# Altium footprint library PcbLib_connector_pinheader.PcbLib: 1 footprints
Each footprint in its own frame and in the unit in brackets; x right, y up, seen from the top. Pads: shape width x height; smd on the part's side, far side on the other; paste and mask are expansions set on the pad; w line width, h text height; cw(c..) or ccw(c..) is an arc to the next point about the centre after c.
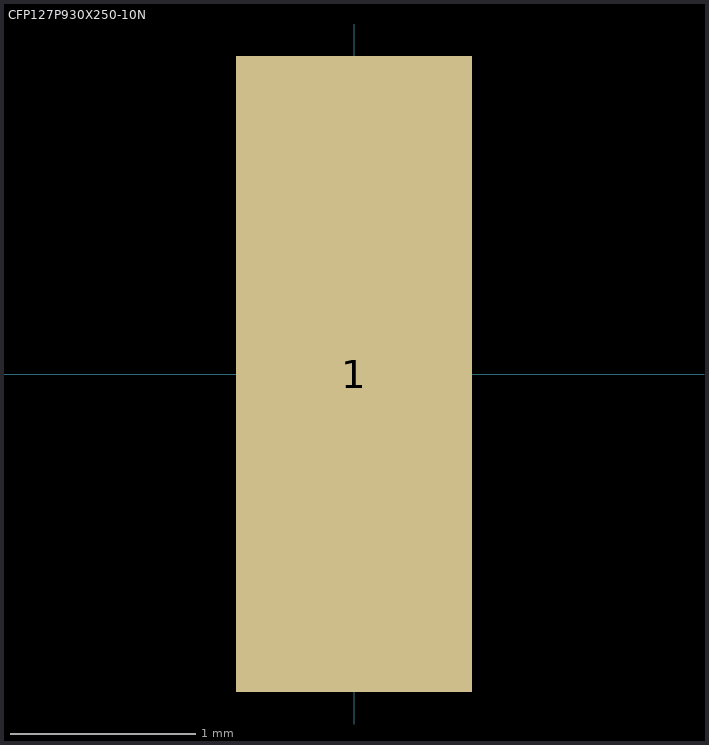
[diagram p0: the footprint, top view; thin cyan lines are the x and y axes]

## CFP127P930X250-10N [mm] "CFP, 10-Leads, Body 7.36x5.08mm (max), Pitch 1.27mm, IPC Medium Density"
height 2.5
pads (1):
  rect 1.27x3.43 smd: 1(0,0)